# EAGLE library part LTC3621_DCB (library Lysenko_Eagle_Lib)
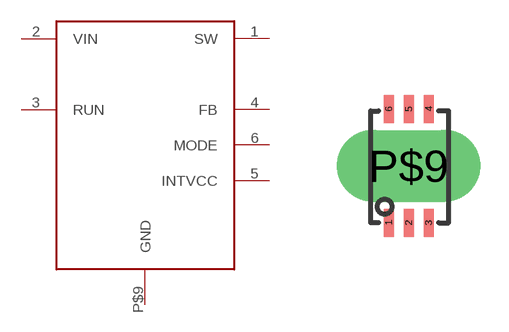
[diagram p19: symbol with the pads of DCB6; footprint DCB6]

Designator prefix -

## LTC3621_DCB  [DCB6]
1  SW
2  VIN
3  RUN
4  FB
5  INTVCC
6  MODE
P$9  GND

## Footprint DCB6 (pad centres in mm)
smd 0.25 x 0.7: 1 0,0; 2 0.5,0; 3 1,0; 4 1,2.85; 5 0.5,2.85; 6 0,2.85
drill 1.2 pad 1.27 long: P$9 0.5,1.425